# Altium schematic symbol library CapTouchSense.SchLib: 63 symbols
Pins are listed as number, name and electrical type; pins without a type are passive.

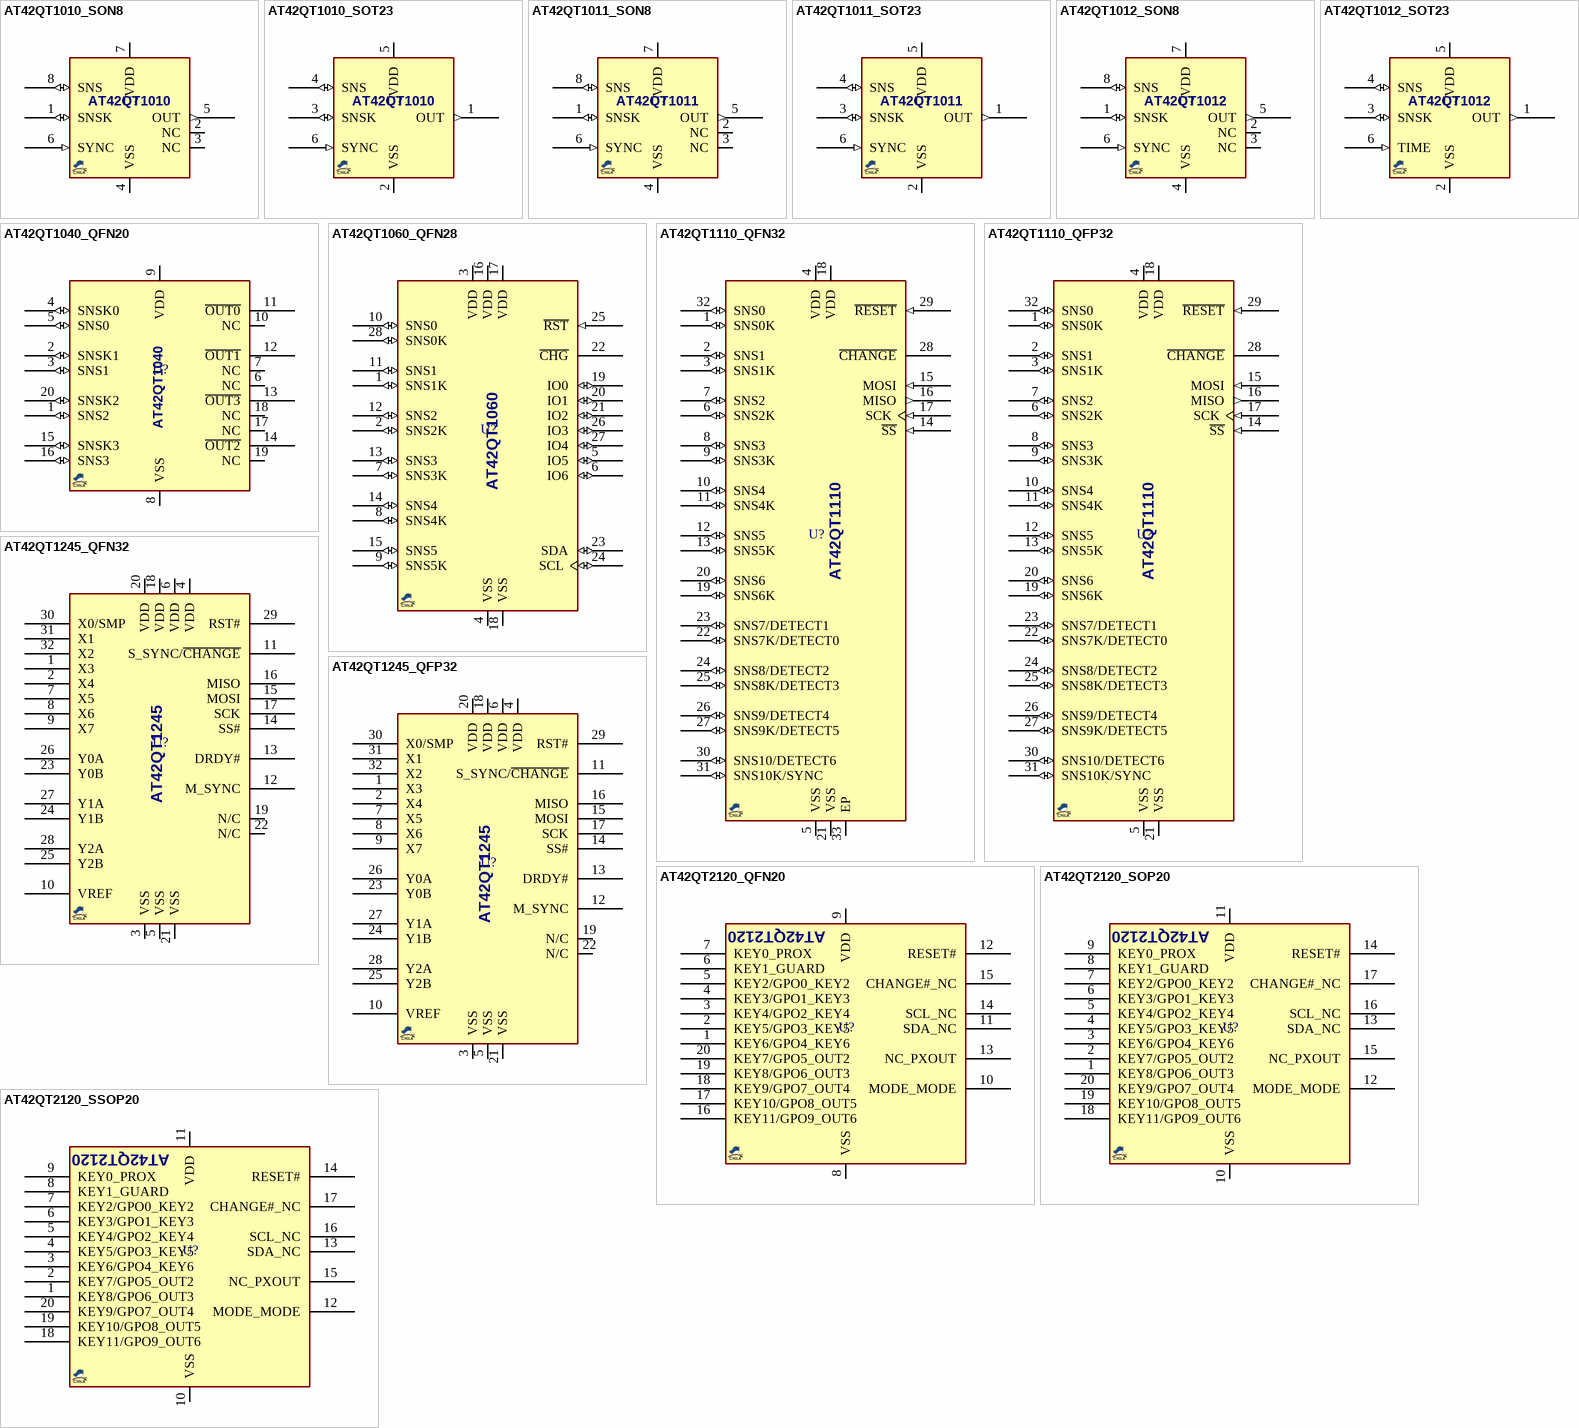
[diagram p0: symbols AT42QT1010_SON8 to AT42QT2120_SSOP20]

## AT42QT1010_SON8
designator U?, comment AT42QT1010  (value not drawn)
CapTouchSensor, 1-ch, Reset Timer, SON8; MANF: Atmel/Microchip; MANF_P#: AT42QT1010-MAH; PARAM2: 1.8~5.5v; PARAM: 1-ch, Reset Timer, ActiveHigh; PRICE: 0.6$; VALUE: AT42QT1010
footprint SON50_8T_2X2 (DSG PWSON (TI), Pitch: 0.5mm 2x2x0.8mm with Thermal pad)
pins: 1 SNSK (io), 2 NC, 3 NC, 4 VSS, 5 OUT (out), 6 SYNC (in), 7 VDD, 8 SNS (io)

## AT42QT1010_SOT23
designator U?, comment AT42QT1010  (value not drawn)
CapTouchSensor, 1-ch, Reset Timer, 6-pin SOT23; MANF: Atmel/Microchip; MANF_P#: AT42QT1010-TSHR, AT42QT1010; PARAM2: 1.8~5.5v; PARAM: 1-ch, Reset Timer, ActiveHigh; PRICE: 0.6$; VALUE: AT42QT1010
footprint SOT23_6 (SOT-23-6, DDC, MICRO6, SOT-26, SOT457, SuperSOT6, TSOP-6, HMC313, MO-178AB, MO-193AA, TSOT)
pins: 1 OUT (out), 2 VSS, 3 SNSK (io), 4 SNS (io), 5 VDD, 6 SYNC (in)

## AT42QT1011_SON8
designator U?, comment AT42QT1011  (value not drawn)
CapTouchSensor, 1-ch, Reset Timer, SON8; MANF: Atmel/Microchip; MANF_P#: AT42QT1011-MAH; PARAM2: 1.8~5.5v; PARAM: 1-ch, Reset Timer, ActiveHigh; PRICE: 0.6$; VALUE: AT42QT1011
footprint SON50_8T_2020 (DSG PWSON (TI), Pitch: 0.5mm 2x2x0.8mm with Thermal pad)
pins: 1 SNSK (io), 2 NC, 3 NC, 4 VSS, 5 OUT (out), 6 SYNC (in), 7 VDD, 8 SNS (io)

## AT42QT1011_SOT23
designator U?, comment AT42QT1011  (value not drawn)
CapTouchSensor, 1-ch, Reset Timer, 6-pin SOT23; MANF: Atmel/Microchip; MANF_P#: AT42QT1011-TSHR, AT42QT1011; PARAM2: 1.8~5.5v; PARAM: 1-ch, Reset Timer, ActiveHigh; PRICE: 0.6$; VALUE: AT42QT1011
footprint SOT23_6 (SOT-23-6, DDC, MICRO6, SOT-26, SOT457, SuperSOT6, TSOP-6, HMC313, MO-178AB, MO-193AA, TSOT)
pins: 1 OUT (out), 2 VSS, 3 SNSK (io), 4 SNS (io), 5 VDD, 6 SYNC (in)

## AT42QT1012_SON8
designator U?, comment AT42QT1012  (value not drawn)
CapTouchSensor, 1-ch, Reset Timer, SON8; MANF: Atmel/Microchip; MANF_P#: AT42QT1012-MAH; PARAM2: 1.8~5.5v; PARAM: 1-ch, Reset Timer, ActiveHigh; PRICE: 0.6$; VALUE: AT42QT1012
footprint SON50_8T_2020 (DSG PWSON (TI), Pitch: 0.5mm 2x2x0.8mm with Thermal pad)
pins: 1 SNSK (io), 2 NC, 3 NC, 4 VSS, 5 OUT (out), 6 SYNC (in), 7 VDD, 8 SNS (io)

## AT42QT1012_SOT23
designator U?, comment AT42QT1012  (value not drawn)
CapTouchSensor, 1-ch, Reset Timer, 6-pin SOT23; MANF: Atmel/Microchip; MANF_P#: AT42QT1012-TSHR, AT42QT1012; PARAM2: 1.8~5.5v; PARAM: 1-ch, Reset Timer, ActiveHigh; PRICE: 0.6$; VALUE: AT42QT1012
footprint SOT23_6 (SOT-23-6, DDC, MICRO6, SOT-26, SOT457, SuperSOT6, TSOP-6, HMC313, MO-178AB, MO-193AA, TSOT)
pins: 1 OUT (out), 2 VSS, 3 SNSK (io), 4 SNS (io), 5 VDD, 6 TIME (in)

## AT42QT1040_QFN20
designator U?, comment AT42QT1040  (value not drawn)
CapTouchSensor, 4-ch, ActiveLow, OpenDrain; DESC: QTouch; MANF: Atmel/Microchip; MANF_P#: AT42QT1040-MMH; PARAM2: 1.8~5.5V; PARAM: ActiveLow, OpenDrain, -40~85°C; PRICE: 1.3$; VALUE: AT42QT1040
footprint QFN45_20T_3X3 (20M2, QFN-20, 3X3mm, pitch 0.45mm)
pins: 1 SNS2 (io), 2 SNSK1 (io), 3 SNS1 (io), 4 SNSK0 (io), 5 SNS0 (io), 6 NC, 7 NC, 8 VSS (power), 9 VDD (power), 10 NC, 11 ~{OUT0} (oc), 12 ~{OUT1} (oc), 13 ~{OUT3} (oc), 14 ~{OUT2} (oc), 15 SNSK3 (io), 16 SNS3 (io), 17 NC, 18 NC, 19 NC, 20 SNSK2 (io)

## AT42QT1060_QFN28
designator U?, comment AT42QT1060  (value not drawn)
CapTouchSensor, 6-ch, PARALLEL+I2C; MANF: Atmel/Microchip; MANF_P#: AT42QT1060-MMU; PARAM2: 1.8~5.5V; PARAM: 6-ch, I2C, QTouch, -40~85°C; PRICE: 2.2$; VALUE: AT42QT1060
footprint QFN45_28T_4X4 (28M1, QFN-28, pitch:0.45mm 4x4x1mm)
pins: 1 SNS1K (io), 2 SNS2K (io), 3 VDD (power), 4 VSS (power), 5 IO5 (io), 6 IO6 (io), 7 SNS3K (io), 8 SNS4K (io), 9 SNS5K (io), 10 SNS0 (io), 11 SNS1 (io), 12 SNS2 (io), 13 SNS3 (io), 14 SNS4 (io), 15 SNS5 (io), 16 VDD (power), 17 VDD (power), 18 VSS (power), 19 IO0 (io), 20 IO1 (io), 21 IO2 (io), 22 ~{CHG} (oc), 23 SDA (io), 24 SCL (io), 25 ~{RST} (in), 26 IO3 (io), 27 IO4 (io), 28 SNS0K (io)

## AT42QT1110_QFN32
designator U?, comment AT42QT1110  (value not drawn)
CapTouchSensor, 11-ch, SPI; MANF: Atmel/Microchip; MANF_P#: AT42QT1110-MUR, AT42QT1110-MZ; PARAM2: 3~5.5V; PARAM: 11-ch, SPI, QTouch, -40~85°C; PRICE: 1.2$; VALUE: AT42QT1110
footprint QFN50_32T (QFN, 32, 5X5mm, 0.5mm)
pins: 1 SNS0K (io), 2 SNS1 (io), 3 SNS1K (io), 4 VDD (power), 5 VSS (power), 6 SNS2K (io), 7 SNS2 (io), 8 SNS3 (io), 9 SNS3K (io), 10 SNS4 (io), 11 SNS4K (io), 12 SNS5 (io), 13 SNS5K (io), 14 ~{SS} (in), 15 MOSI (in), 16 MISO (out), 17 SCK (in), 18 VDD (power), 19 SNS6K (io), 20 SNS6 (io), 21 VSS (power), 22 SNS7K/DETECT0 (io), 23 SNS7/DETECT1 (io), 24 SNS8/DETECT2 (io), 25 SNS8K/DETECT3 (io), 26 SNS9/DETECT4 (io), 27 SNS9K/DETECT5 (io), 28 ~{CHANGE} (oc), 29 ~{RESET} (in), 30 SNS10/DETECT6 (io), 31 SNS10K/SYNC (io), 32 SNS0 (io), 33 EP (power)

## AT42QT1110_QFP32
designator U?, comment AT42QT1110  (value not drawn)
CapTouchSensor, 11-ch, SPI; MANF: Atmel/Microchip; MANF_P#: AT42QT1110-AUR, AT42QT1110-AZ; PARAM2: 3~5.5V; PARAM: 11-ch, SPI, QTouch, -40~85°C; PRICE: 1.2$, 2.2$; VALUE: AT42QT1110
footprint QFG80_32 (TQFP32, A32 (Cypress), GP32 (Zarlink), MS-026ABA(JEDEC), 7X7mm, 0.8mm)
pins: 1 SNS0K (io), 2 SNS1 (io), 3 SNS1K (io), 4 VDD (power), 5 VSS (power), 6 SNS2K (io), 7 SNS2 (io), 8 SNS3 (io), 9 SNS3K (io), 10 SNS4 (io), 11 SNS4K (io), 12 SNS5 (io), 13 SNS5K (io), 14 ~{SS} (in), 15 MOSI (in), 16 MISO (out), 17 SCK (in), 18 VDD (power), 19 SNS6K (io), 20 SNS6 (io), 21 VSS (power), 22 SNS7K/DETECT0 (io), 23 SNS7/DETECT1 (io), 24 SNS8/DETECT2 (io), 25 SNS8K/DETECT3 (io), 26 SNS9/DETECT4 (io), 27 SNS9K/DETECT5 (io), 28 ~{CHANGE} (oc), 29 ~{RESET} (in), 30 SNS10/DETECT6 (io), 31 SNS10K/SYNC (io), 32 SNS0 (io)

## AT42QT1245_QFN32
designator U?, comment AT42QT1245  (value not drawn)
CapTouchSensor, 24-CH, SPI, QFN32; MANF: Atmel/Microchip; MANF_P#: AT42QT1245-MU; PARAM2: 3~5V; PARAM: 24-CH, SPI, QMatrix, -40~105°C; PRICE: 1.4$; VALUE: AT42QT1245
footprint QFN50_32T (QFN, 32, 5X5mm, 0.5mm)
pins: 1 X3, 2 X4, 3 VSS, 4 VDD, 5 VSS, 6 VDD, 7 X5, 8 X6, 9 X7, 10 VREF, 11 S_SYNC/~{CHANGE}, 12 M_SYNC, 13 DRDY#, 14 SS#, 15 MOSI, 16 MISO, 17 SCK, 18 VDD, 19 N/C, 20 VDD, 21 VSS, 22 N/C, 23 Y0B, 24 Y1B, 25 Y2B, 26 Y0A, 27 Y1A, 28 Y2A, 29 RST#, 30 X0/SMP, 31 X1, 32 X2

## AT42QT1245_QFP32
designator U?, comment AT42QT1245  (value not drawn)
CapTouchSensor, 24-CH, SPI, QFP32; MANF: Atmel/Microchip; MANF_P#: AT42QT1245-AU; PARAM2: 3~5V; PARAM: 24-CH, SPI, QMatrix, -40~105°C; PRICE: 3$; VALUE: AT42QT1245
footprint QFG80_32 (TQFP32, A32 (Cypress), GP32 (Zarlink), MS-026ABA(JEDEC), 7X7mm, 0.8mm)
pins: 1 X3, 2 X4, 3 VSS, 4 VDD, 5 VSS, 6 VDD, 7 X5, 8 X6, 9 X7, 10 VREF, 11 S_SYNC/~{CHANGE}, 12 M_SYNC, 13 DRDY#, 14 SS#, 15 MOSI, 16 MISO, 17 SCK, 18 VDD, 19 N/C, 20 VDD, 21 VSS, 22 N/C, 23 Y0B, 24 Y1B, 25 Y2B, 26 Y0A, 27 Y1A, 28 Y2A, 29 RST#, 30 X0/SMP, 31 X1, 32 X2

## AT42QT2120_QFN20
designator U?, comment AT42QT2120  (value not drawn)
CapTouchSensor, 12-CH, I2C, QFN20; MANF: Atmel/Microchip; MANF_P#: AT42QT2120-MMH; PARAM2: 1.8~5.5V; PARAM: 12-CH, I2C, QTouch, -40~85°C; PRICE: 1.5$; VALUE: AT42QT2120
footprint QFN45_20T_3X3 (20M2, QFN-20, 3X3mm, pitch 0.45mm)
pins: 1 KEY6/GPO4_KEY6, 2 KEY5/GPO3_KEY5, 3 KEY4/GPO2_KEY4, 4 KEY3/GPO1_KEY3, 5 KEY2/GPO0_KEY2, 6 KEY1_GUARD, 7 KEY0_PROX, 8 VSS, 9 VDD, 10 MODE_MODE, 11 SDA_NC, 12 RESET#, 13 NC_PXOUT, 14 SCL_NC, 15 CHANGE#_NC, 16 KEY11/GPO9_OUT6, 17 KEY10/GPO8_OUT5, 18 KEY9/GPO7_OUT4, 19 KEY8/GPO6_OUT3, 20 KEY7/GPO5_OUT2

## AT42QT2120_SOP20
designator U?, comment AT42QT2120  (value not drawn)
CapTouchSensor, 12-CH, I2C, QFN20; MANF: Atmel/Microchip; MANF_P#: AT42QT2120-SU; PARAM2: 1.8~5.5V; PARAM: 12-CH, I2C, QTouch, -40~85°C; PRICE: 0.7$; VALUE: AT42QT2120
footprint SO_20_W (SOP, SOIC, 7.5mm width, 1.27mm pitch,)
pins: 1 KEY8/GPO6_OUT3, 2 KEY7/GPO5_OUT2, 3 KEY6/GPO4_KEY6, 4 KEY5/GPO3_KEY5, 5 KEY4/GPO2_KEY4, 6 KEY3/GPO1_KEY3, 7 KEY2/GPO0_KEY2, 8 KEY1_GUARD, 9 KEY0_PROX, 10 VSS, 11 VDD, 12 MODE_MODE, 13 SDA_NC, 14 RESET#, 15 NC_PXOUT, 16 SCL_NC, 17 CHANGE#_NC, 18 KEY11/GPO9_OUT6, 19 KEY10/GPO8_OUT5, 20 KEY9/GPO7_OUT4

## AT42QT2120_SSOP20
designator U?, comment AT42QT2120  (value not drawn)
CapTouchSensor, 12-CH, I2C, QFN20; MANF: Atmel/Microchip; MANF_P#: AT42QT2120-XU; PARAM2: 1.8~5.5V; PARAM: 12-CH, I2C, QTouch, -40~85°C; PRICE: 1.5$; VALUE: AT42QT2120
footprint SOG65_20 (PW TSSOP (TI), MO-153-AC (JEDEC), 20Lead, pitch: 0.65mm, 6.5x4.4x1.2mm)
pins: 1 KEY8/GPO6_OUT3, 2 KEY7/GPO5_OUT2, 3 KEY6/GPO4_KEY6, 4 KEY5/GPO3_KEY5, 5 KEY4/GPO2_KEY4, 6 KEY3/GPO1_KEY3, 7 KEY2/GPO0_KEY2, 8 KEY1_GUARD, 9 KEY0_PROX, 10 VSS, 11 VDD, 12 MODE_MODE, 13 SDA_NC, 14 RESET#, 15 NC_PXOUT, 16 SCL_NC, 17 CHANGE#_NC, 18 KEY11/GPO9_OUT6, 19 KEY10/GPO8_OUT5, 20 KEY9/GPO7_OUT4

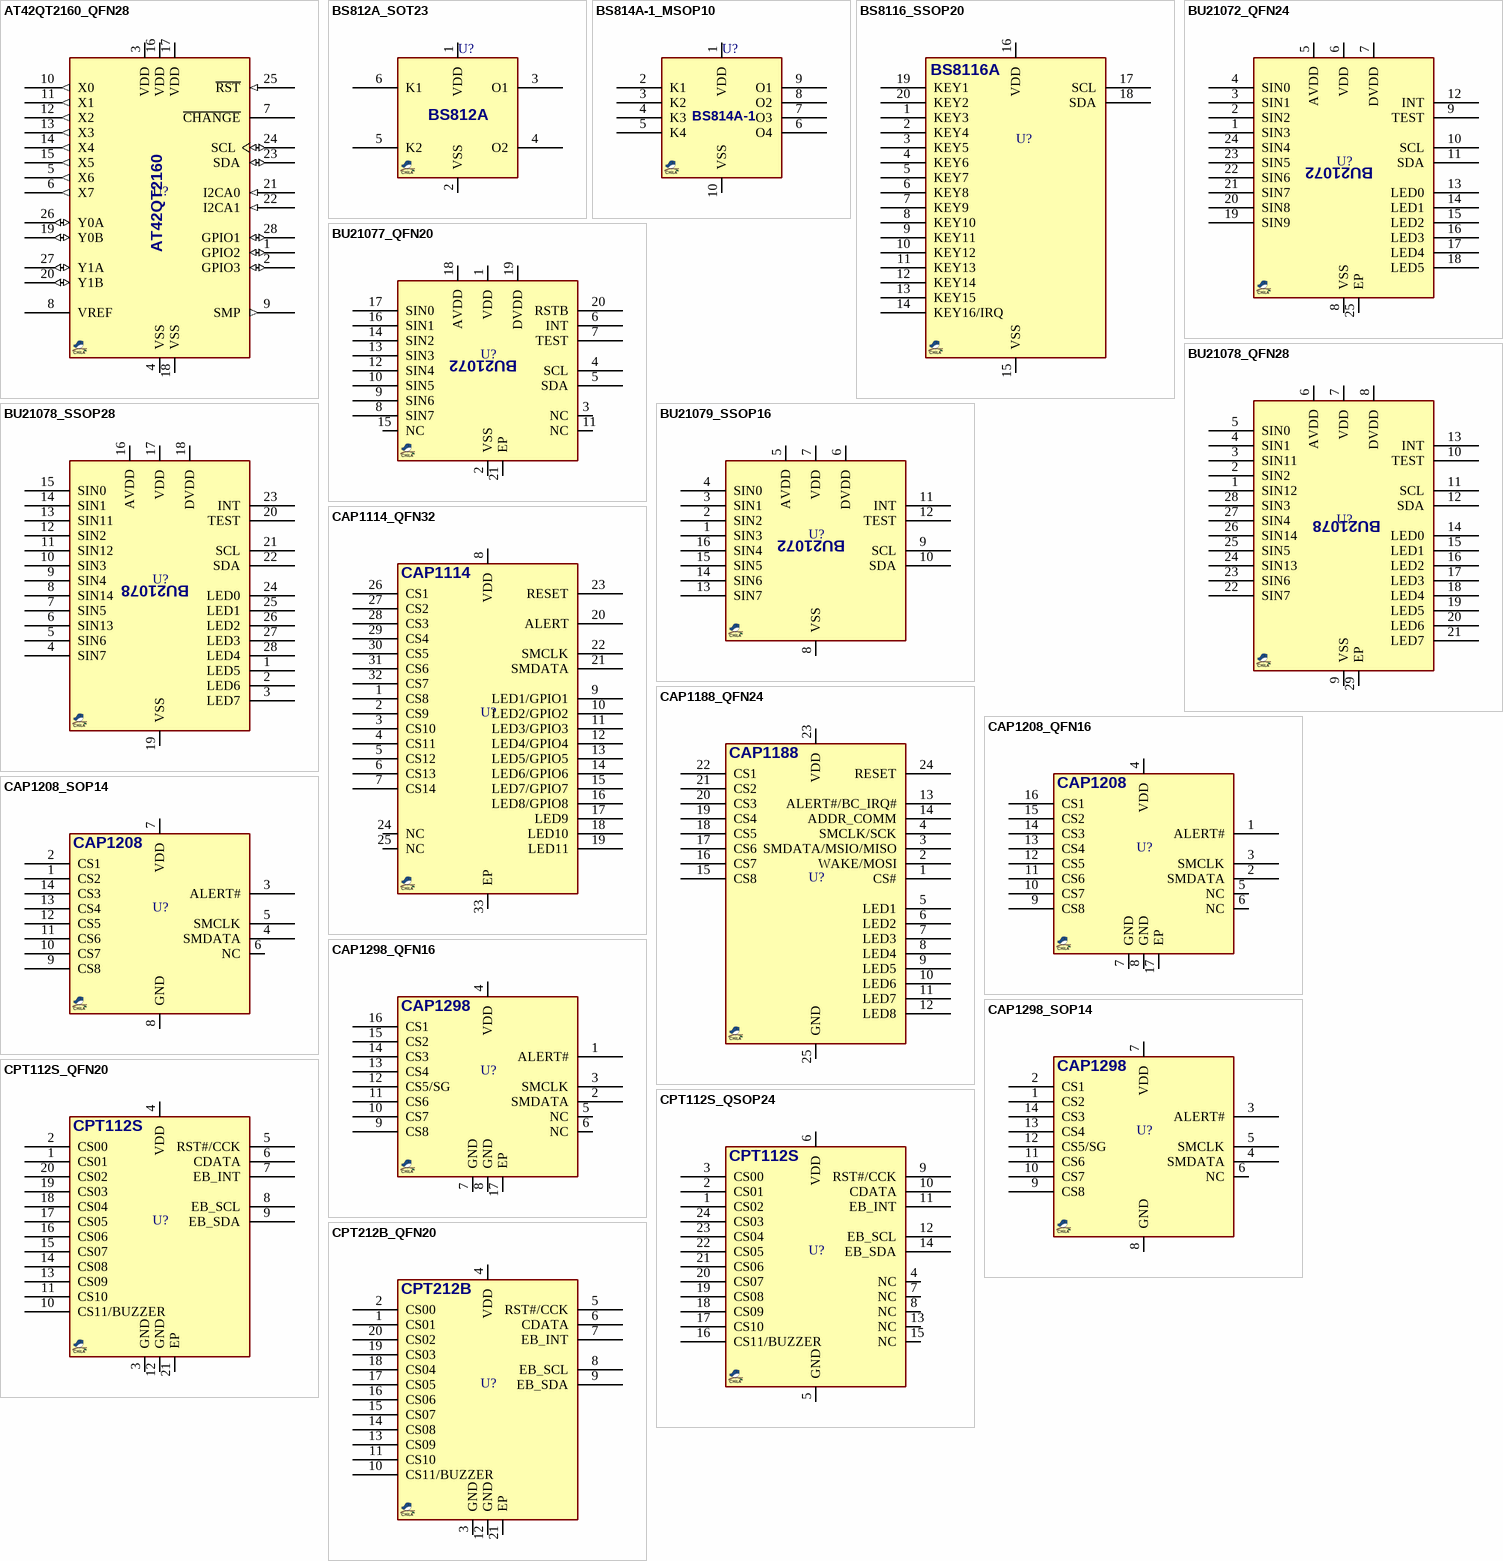
[diagram p1: symbols AT42QT2160_QFN28 to CPT212B_QFN20]

## AT42QT2160_QFN28
designator U?, comment AT42QT2160  (value not drawn)
CapTouchSensor, 16-CH, I2C, QFN28; DESC: QMatrix, QSlide; MANF: Atmel/Microchip; MANF_P#: AT42QT2160-MMU; PARAM2: 1.8~5.5V; PARAM: 16-CH, I2C, QMatrix/QSlide, -40~85°C; PRICE: 2.2$; VALUE: AT42QT2160
footprint QFN45_28T_4X4 (28M1, QFN-28, pitch:0.45mm 4x4x1mm)
pins: 1 GPIO2 (io), 2 GPIO3 (io), 3 VDD (power), 4 VSS (power), 5 X6 (out), 6 X7 (out), 7 ~{CHANGE} (oc), 8 VREF (power), 9 SMP (out), 10 X0 (out), 11 X1 (out), 12 X2 (out), 13 X3 (out), 14 X4 (out), 15 X5 (out), 16 VDD (power), 17 VDD (power), 18 VSS (power), 19 Y0B (io), 20 Y1B (io), 21 I2CA0 (in), 22 I2CA1 (in), 23 SDA (io), 24 SCL (io), 25 ~{RST} (in), 26 Y0A (io), 27 Y1A (io), 28 GPIO1 (io)

## BS812A_SOT23
designator U?, comment BS812A  (value not drawn)
CapTouchSensor, 2-Ch; MANF: HOLTEK; MANF_P#: BS812A-1; PARAM2: 2~5.5V; VALUE: BS812A
footprint SOT23_6 (SOT-23-6, MICRO6, SOT-26, SOT457, SuperSOT6, TSOP-6, HMC313, MO-178AB, MO-193AA, TSOT)
pins: 1 VDD, 2 VSS, 3 O1, 4 O2, 5 K2, 6 K1

## BS814A-1_MSOP10
designator U?, comment BS814A-1  (value not drawn)
CapTouchSensor, 4-Ch parallel; MANF: HOLTEK; PARAM2: 2~5.5V; MANF_P#: BS814A-1; PRICE: 4t@Micromdern; VALUE: BS814A-1
footprint SOG50_10 (MSSOP10, 3X3mm 0.5mm pitch, DGS, MSOP10, 10uSOP/usop10 (Dallas), MO-187BA(JEDEC))
pins: 1 VDD, 2 K1, 3 K2, 4 K3, 5 K4, 6 O4, 7 O3, 8 O2, 9 O1, 10 VSS

## BS8116_SSOP20
designator U?, comment BS8116  (value not drawn)
CapTouchSensor, 16-Ch; MANF: HOLTEK; MANF_P#: BS8116A-3; PARAM2: 2.2~5.5V; VALUE: BS8116
footprint SOG63_20 (SSOP, 20-Leads, 8.60xWidth: 3.90mm, Pitch 0.635mm)
pins: 1 KEY3, 2 KEY4, 3 KEY5, 4 KEY6, 5 KEY7, 6 KEY8, 7 KEY9, 8 KEY10, 9 KEY11, 10 KEY12, 11 KEY13, 12 KEY14, 13 KEY15, 14 KEY16/IRQ, 15 VSS, 16 VDD, 17 SCL, 18 SDA, 19 KEY1, 20 KEY2
text: BS8116A

## BU21072_QFN24
designator U?, comment BU21072  (value not drawn)
CapTouchSensor, 16-CH, I2C, Matrix, QFN24; MANF: ROHM; MANF_P#: BU21072MUV; PARAM2: 3~5.5V; PARAM: 16-CH, I2C, -20~85°C; PRICE: 2.8$; VALUE: BU21072
footprint QFN50_24T (MO-220 (JEDEC), RGE S-PQFP-N24 (TI), 4X4mm, 0.5mm, HVQFN24)
pins: 1 SIN3, 2 SIN2, 3 SIN1, 4 SIN0, 5 AVDD, 6 VDD, 7 DVDD, 8 VSS, 9 TEST, 10 SCL, 11 SDA, 12 INT, 13 LED0, 14 LED1, 15 LED2, 16 LED3, 17 LED4, 18 LED5, 19 SIN9, 20 SIN8, 21 SIN7, 22 SIN6, 23 SIN5, 24 SIN4, 25 EP

## BU21077_QFN20
designator U?, comment BU21077  (value not drawn)
CapTouchSensor, 8-CH, I2C, Matrix, QFN20; MANF: ROHM; MANF_P#: BU21077MUV; PARAM2: 2.7~5.5V; PARAM: 16-CH, I2C, -20~85°C; PRICE: 2.1$; VALUE: BU21077
footprint QFN50_20T (QFN, 20, 4X4mm, 0.5mm)
pins: 1 VDD, 2 VSS, 3 NC, 4 SCL, 5 SDA, 6 INT, 7 TEST, 8 SIN7, 9 SIN6, 10 SIN5, 11 NC, 12 SIN4, 13 SIN3, 14 SIN2, 15 NC, 16 SIN1, 17 SIN0, 18 AVDD, 19 DVDD, 20 RSTB, 21 EP
text: BU21072

## BU21078_QFN28
designator U?, comment BU21078  (value not drawn)
CapTouchSensor, 36-CH, I2C, Matrix, QFN28; MANF: ROHM; MANF_P#: BU21078MUV; PARAM2: 3~5.5V; PARAM: 36-CH, I2C, -20~85°C; PRICE: 2.8$; VALUE: BU21078
footprint QFN50_28T (QFN, 28, 5X5mm, 0.5mm)
pins: 1 SIN12, 2 SIN2, 3 SIN11, 4 SIN1, 5 SIN0, 6 AVDD, 7 VDD, 8 DVDD, 9 VSS, 10 TEST, 11 SCL, 12 SDA, 13 INT, 14 LED0, 15 LED1, 16 LED2, 17 LED3, 18 LED4, 19 LED5, 20 LED6, 21 LED7, 22 SIN7, 23 SIN6, 24 SIN13, 25 SIN5, 26 SIN14, 27 SIN4, 28 SIN3, 29 EP

## BU21078_SSOP28
designator U?, comment BU21078  (value not drawn)
CapTouchSensor, 36-CH, I2C, Matrix, SSOP28; MANF: ROHM; MANF_P#: BU21078FV; PARAM2: 3~5.5V; PARAM: 36-CH, I2C, -20~85°C; PRICE: 1.7$; VALUE: BU21078
footprint SOG65_28_W (SOP, 28-Leads, Body 10.6x5.6mm (max), Pitch 0.65mm)
pins: 1 LED5, 2 LED6, 3 LED7, 4 SIN7, 5 SIN6, 6 SIN13, 7 SIN5, 8 SIN14, 9 SIN4, 10 SIN3, 11 SIN12, 12 SIN2, 13 SIN11, 14 SIN1, 15 SIN0, 16 AVDD, 17 VDD, 18 DVDD, 19 VSS, 20 TEST, 21 SCL, 22 SDA, 23 INT, 24 LED0, 25 LED1, 26 LED2, 27 LED3, 28 LED4

## BU21079_SSOP16
designator U?, comment BU21079  (value not drawn)
CapTouchSensor, 8-CH, I2C, Matrix, QFN20; MANF: ROHM; MANF_P#: BU21079F; PARAM2: 3~5.5V; PARAM: 16-CH, I2C, -20~85°C; PRICE: 2.4$; VALUE: BU21079
footprint SOG65_16 (PW TSSOP (TI), MO-153-AB (JEDEC), 16Lead, pitch: 0.65mm, 5x4.4x1.2mm)
pins: 1 SIN3, 2 SIN2, 3 SIN1, 4 SIN0, 5 AVDD, 6 DVDD, 7 VDD, 8 VSS, 9 SCL, 10 SDA, 11 INT, 12 TEST, 13 SIN7, 14 SIN6, 15 SIN5, 16 SIN4
text: BU21072

## CAP1114_QFN32
designator U?, comment CAP1114  (value not drawn)
CapTouchSensor, 14-CH, I2C/SMBUS, QFN32; DESC: LED driver open Drain 5v; MANF: Microchip; MANF_P#: CAP1114-1-EZK; PARAM2: 3.3V; PARAM: 14-CH, I2C/SMBUS, -40~125°C; PRICE: 1.4$; VALUE: CAP1114
footprint QFN50_32T (QFN, 32, 5X5mm, 0.5mm)
pins: 1 CS8, 2 CS9, 3 CS10, 4 CS11, 5 CS12, 6 CS13, 7 CS14, 8 VDD, 9 LED1/GPIO1, 10 LED2/GPIO2, 11 LED3/GPIO3, 12 LED4/GPIO4, 13 LED5/GPIO5, 14 LED6/GPIO6, 15 LED7/GPIO7, 16 LED8/GPIO8, 17 LED9, 18 LED10, 19 LED11, 20 ALERT, 21 SMDATA, 22 SMCLK, 23 RESET, 24 NC, 25 NC, 26 CS1, 27 CS2, 28 CS3, 29 CS4, 30 CS5, 31 CS6, 32 CS7, 33 EP

## CAP1188_QFN24
designator U?, comment CAP1188  (value not drawn)
CapTouchSensor, 8-CH, I2C/SMBUS/SPI, QFN24; DESC: LED driver open Drain 5v; MANF: Microchip; MANF_P#: CAP1188-1-CP; PARAM2: 3.3V; PARAM: 8-CH, I2C/SMBUS/SPI, -40~125°C; PRICE: 1.4$; VALUE: CAP1188
footprint QFN50_24T (MO-220 (JEDEC), RGE S-PQFP-N24 (TI), 4X4mm, 0.5mm, HVQFN24)
pins: 1 CS#, 2 WAKE/MOSI, 3 SMDATA/MSIO/MISO, 4 SMCLK/SCK, 5 LED1, 6 LED2, 7 LED3, 8 LED4, 9 LED5, 10 LED6, 11 LED7, 12 LED8, 13 ALERT#/BC_IRQ#, 14 ADDR_COMM, 15 CS8, 16 CS7, 17 CS6, 18 CS5, 19 CS4, 20 CS3, 21 CS2, 22 CS1, 23 VDD, 24 RESET, 25 GND

## CAP1208_QFN16
designator U?, comment CAP1208  (value not drawn)
CapTouchSensor, 8-CH, I2C/SMBUS, QFN16; DESC: LED driver open Drain 5v; MANF: Microchip; MANF_P#: CAP1208-1-A4; PARAM2: 3.3/5V; PARAM: 8-CH, I2C/SMBUS, -40~125°C; PRICE: 1$; VALUE: CAP1208
footprint QFN50_16T_3X3 (RGT PVQFN (TI), 16-lead, pitch: 0.5mm, 3x3mm)
pins: 1 ALERT#, 2 SMDATA, 3 SMCLK, 4 VDD, 5 NC, 6 NC, 7 GND, 8 GND, 9 CS8, 10 CS7, 11 CS6, 12 CS5, 13 CS4, 14 CS3, 15 CS2, 16 CS1, 17 EP

## CAP1208_SOP14
designator U?, comment CAP1208  (value not drawn)
CapTouchSensor, 8-CH, I2C/SMBUS, SOP14; DESC: LED driver open Drain 5v; MANF: Microchip; MANF_P#: CAP1208-1-SL; PARAM2: 3.3/5V; PARAM: 8-CH, I2C/SMBUS, -40~125°C; PRICE: 1$; VALUE: CAP1208
footprint SO_14 (SOP, SOIC, 3.9mm width, 1.27mm pitch,)
pins: 1 CS2, 2 CS1, 3 ALERT#, 4 SMDATA, 5 SMCLK, 6 NC, 7 VDD, 8 GND, 9 CS8, 10 CS7, 11 CS6, 12 CS5, 13 CS4, 14 CS3

## CAP1298_QFN16
designator U?, comment CAP1298  (value not drawn)
CapTouchSensor, 8-CH, I2C/SMBUS, QFN16; DESC: LED driver open Drain 5v; MANF: Microchip; MANF_P#: CAP1298-1-A4; PARAM2: 3.3/5V; PARAM: 8-CH, I2C/SMBUS, -40~125°C; PRICE: 1$; VALUE: CAP1298
footprint QFN50_16T_3X3 (RGT PVQFN (TI), 16-lead, pitch: 0.5mm, 3x3mm)
pins: 1 ALERT#, 2 SMDATA, 3 SMCLK, 4 VDD, 5 NC, 6 NC, 7 GND, 8 GND, 9 CS8, 10 CS7, 11 CS6, 12 CS5/SG, 13 CS4, 14 CS3, 15 CS2, 16 CS1, 17 EP

## CAP1298_SOP14
designator U?, comment CAP1298  (value not drawn)
CapTouchSensor, 8-CH, I2C/SMBUS, SOP14; DESC: LED driver open Drain 5v; MANF: Microchip; MANF_P#: CAP1298-1-SL; PARAM2: 3.3/5V; PARAM: 8-CH, I2C/SMBUS, -40~125°C; PRICE: 1$; VALUE: CAP1298
footprint SO_14 (SOP, SOIC, 3.9mm width, 1.27mm pitch,)
pins: 1 CS2, 2 CS1, 3 ALERT#, 4 SMDATA, 5 SMCLK, 6 NC, 7 VDD, 8 GND, 9 CS8, 10 CS7, 11 CS6, 12 CS5/SG, 13 CS4, 14 CS3

## CPT112S_QFN20
designator U?, comment CPT112S  (value not drawn)
CapTouchSensor, 12-CH, I2C, QFN20; MANF: Silicon Labs; MANF_P#: CPT112S-A02-GM; PARAM2: 1.8~3.6V; PARAM: 12-CH, I2C, -40~85°C; PRICE: 1.4$; VALUE: CPT112S
footprint QFN50_20T_3X3 (QFN20, pitch: 0.5mm, 3x3mm)
pins: 1 CS01, 2 CS00, 3 GND, 4 VDD, 5 RST#/CCK, 6 CDATA, 7 EB_INT, 8 EB_SCL, 9 EB_SDA, 10 CS11/BUZZER, 11 CS10, 12 GND, 13 CS09, 14 CS08, 15 CS07, 16 CS06, 17 CS05, 18 CS04, 19 CS03, 20 CS02, 21 EP

## CPT112S_QSOP24
designator U?, comment CPT112S  (value not drawn)
CapTouchSensor, 12-CH, I2C, QSOP24; MANF: Silicon Labs; MANF_P#: CPT112S-A02-GU; PARAM2: 1.8~3.6V; PARAM: 12-CH, I2C, -40~85°C; PRICE: 1.5$; VALUE: CPT112S
footprint SOG63_24 (QSOP24, 8.6X3.9mm, 0.635mm pitch)
pins: 1 CS02, 2 CS01, 3 CS00, 4 NC, 5 GND, 6 VDD, 7 NC, 8 NC, 9 RST#/CCK, 10 CDATA, 11 EB_INT, 12 EB_SCL, 13 NC, 14 EB_SDA, 15 NC, 16 CS11/BUZZER, 17 CS10, 18 CS09, 19 CS08, 20 CS07, 21 CS06, 22 CS05, 23 CS04, 24 CS03

## CPT212B_QFN20
designator U?, comment CPT212B  (value not drawn)
CapTouchSensor, 12-CH, I2C, QFN20; MANF: Silicon Labs; MANF_P#: CPT212B-A01-GM; PARAM2: 1.8~3.6V; PARAM: 12-CH, I2C, -40~85°C; PRICE: 1.4$; VALUE: CPT212B
footprint QFN50_20T_3X3 (QFN20, pitch: 0.5mm, 3x3mm)
pins: 1 CS01, 2 CS00, 3 GND, 4 VDD, 5 RST#/CCK, 6 CDATA, 7 EB_INT, 8 EB_SCL, 9 EB_SDA, 10 CS11/BUZZER, 11 CS10, 12 GND, 13 CS09, 14 CS08, 15 CS07, 16 CS06, 17 CS05, 18 CS04, 19 CS03, 20 CS02, 21 EP

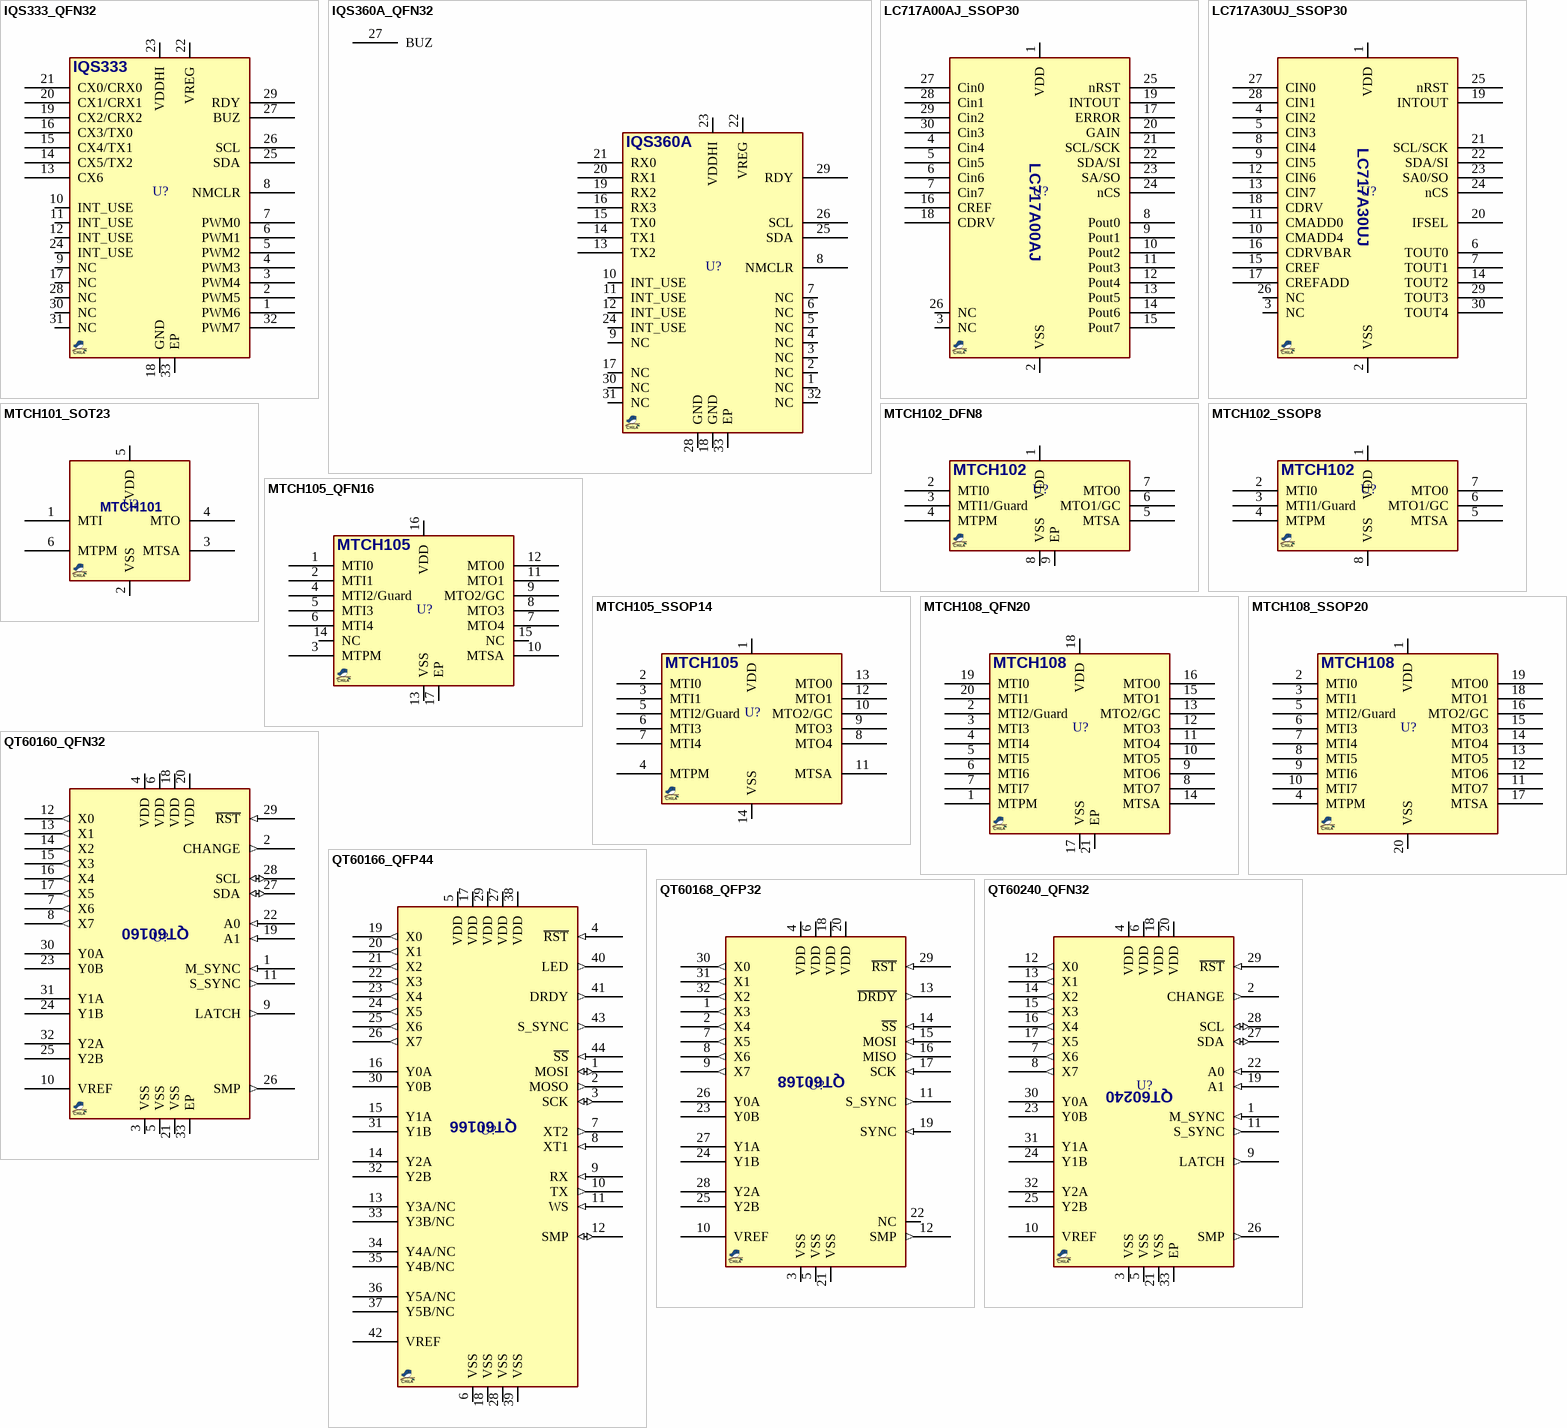
[diagram p2: symbols IQS333_QFN32 to QT60240_QFN32]

## IQS333_QFN32
designator U?, comment IQS333  (value not drawn)
CapTouchSensor, 7-CH, I2C, QFN32; DESC: PROX and Touch, 2x 11bit Slider; MANF: Azoteq; MANF_P#: IQS333-0-QFR; PARAM2: 1.8~3.6V; PARAM: 7-CH, I2C, -20~85°C; PRICE: 1.2$; VALUE: IQS333
footprint QFN50_32T (QFN, 32, 5X5mm, 0.5mm)
pins: 1 PWM6, 2 PWM5, 3 PWM4, 4 PWM3, 5 PWM2, 6 PWM1, 7 PWM0, 8 NMCLR, 9 NC, 10 INT_USE, 11 INT_USE, 12 INT_USE, 13 CX6, 14 CX5/TX2, 15 CX4/TX1, 16 CX3/TX0, 17 NC, 18 GND, 19 CX2/CRX2, 20 CX1/CRX1, 21 CX0/CRX0, 22 VREG, 23 VDDHI, 24 INT_USE, 25 SDA, 26 SCL, 27 BUZ, 28 NC, 29 RDY, 30 NC, 31 NC, 32 PWM7, 33 EP

## IQS360A_QFN32
designator U?, comment IQS360A  (value not drawn)
CapTouchSensor, 7-CH, I2C, QFN32; DESC: PROX and Touch, 2x 11bit Slider; MANF: Azoteq; MANF_P#: IQS360A-0-QFR; PARAM2: 1.8~3.6V; PARAM: 7-CH, I2C, -20~85°C; PRICE: 1.2$; VALUE: IQS360A
footprint QFN50_32T (QFN, 32, 5X5mm, 0.5mm)
pins: 1 NC, 2 NC, 3 NC, 4 NC, 5 NC, 6 NC, 7 NC, 8 NMCLR, 9 NC, 10 INT_USE, 11 INT_USE, 12 INT_USE, 13 TX2, 14 TX1, 15 TX0, 16 RX3, 17 NC, 18 GND, 19 RX2, 20 RX1, 21 RX0, 22 VREG, 23 VDDHI, 24 INT_USE, 25 SDA, 26 SCL, 27 BUZ, 28 GND, 29 RDY, 30 NC, 31 NC, 32 NC, 33 EP

## LC717A00AJ_SSOP30
designator U?, comment LC717A00AJ  (value not drawn)
CapTouchSensor, 8-CH, I2C/SPI, SSOP30; MANF: ON; MANF_P#: LC717A00AJ-AH; PARAM2: 2.6~5.5V; PARAM: 8-CH, I2C/SPI, -40~105°C; PRICE: 2.2$; VALUE: LC717A00AJ
footprint SOG50_30 (DBT TSSOP (TI), MO-153 (JEDEC), 30Lead, pitch: 0.5mm, 8x4.4x1.2mm)
pins: 1 VDD, 2 VSS, 3 NC, 4 Cin4, 5 Cin5, 6 Cin6, 7 Cin7, 8 Pout0, 9 Pout1, 10 Pout2, 11 Pout3, 12 Pout4, 13 Pout5, 14 Pout6, 15 Pout7, 16 CREF, 17 ERROR, 18 CDRV, 19 INTOUT, 20 GAIN, 21 SCL/SCK, 22 SDA/SI, 23 SA/SO, 24 nCS, 25 nRST, 26 NC, 27 Cin0, 28 Cin1, 29 Cin2, 30 Cin3

## LC717A30UJ_SSOP30
designator U?, comment LC717A30UJ  (value not drawn)
CapTouchSensor, 8-CH, I2C/SPI, SSOP30; MANF: ON; MANF_P#: LC717A30UJ-AH; PARAM2: 2.6~5.5V; PARAM: 8-CH, I2C/SPI, -40~105°C; PRICE: 4.6$; VALUE: LC717A30UJ
footprint SOG50_30 (DBT TSSOP (TI), MO-153 (JEDEC), 30Lead, pitch: 0.5mm, 8x4.4x1.2mm)
pins: 1 VDD, 2 VSS, 3 NC, 4 CIN2, 5 CIN3, 6 TOUT0, 7 TOUT1, 8 CIN4, 9 CIN5, 10 CMADD4, 11 CMADD0, 12 CIN6, 13 CIN7, 14 TOUT2, 15 CREF, 16 CDRVBAR, 17 CREFADD, 18 CDRV, 19 INTOUT, 20 IFSEL, 21 SCL/SCK, 22 SDA/SI, 23 SA0/SO, 24 nCS, 25 nRST, 26 NC, 27 CIN0, 28 CIN1, 29 TOUT3, 30 TOUT4

## MTCH101_SOT23
designator U?, comment MTCH101  (value not drawn)
CapTouchSensor, 1-CH, SOT23-6; MANF: Microchip; MANF_P#: MTCH101-I/OT, MTCH101T-I/OT; PARAM2: 2~5.5V; PARAM: 1-CH, -40~85°C; PRICE: 0.5$; VALUE: MTCH101
footprint SOT23_6 (SOT-23-6, DDC, MICRO6, SOT-26, SOT457, SuperSOT6, TSOP-6, HMC313, MO-178AB, MO-193AA, TSOT)
pins: 1 MTI, 2 VSS, 3 MTSA, 4 MTO, 5 VDD, 6 MTPM

## MTCH102_DFN8
designator U?, comment MTCH102  (value not drawn)
CapTouchSensor, 2-CH, PARALLEL, DFN8; MANF: Microchip; MANF_P#: MTCH102T-I/MU; PARAM2: 2~3.6V; PARAM: 2-CH, PARALLEL, -40~85°C; PRICE: 0.8$; VALUE: MTCH102
footprint SON50_8T_2X3 (TDFN, UFDFPN8, Pitch: 0.5mm 2x3x0.8mm with Thermal pad)
pins: 1 VDD, 2 MTI0, 3 MTI1/Guard, 4 MTPM, 5 MTSA, 6 MTO1/GC, 7 MTO0, 8 VSS, 9 EP

## MTCH102_SSOP8
designator U?, comment MTCH102  (value not drawn)
CapTouchSensor, 2-CH, PARALLEL, SSOP8; MANF: Microchip; MANF_P#: MTCH102-I/MS, MTCH102T-I/MS; PARAM2: 2~3.6V; PARAM: 2-CH, PARALLEL, -40~85°C; PRICE: 0.8$; VALUE: MTCH102
footprint SOG65_8_3 (TSSOP8, MICRO8,  DGK VSSOP-8, MSOP8,   RM-8, MS8, MSOP-8, TSSO3X5-G8/D3.1, 8 uMAX, usop8/8uSOP, MO-187AA, MO-153AA, SSOP DCT SM8 (TI), pitch: 0.65mm, 3.0mmX3.0mm)
pins: 1 VDD, 2 MTI0, 3 MTI1/Guard, 4 MTPM, 5 MTSA, 6 MTO1/GC, 7 MTO0, 8 VSS

## MTCH105_QFN16
designator U?, comment MTCH105  (value not drawn)
CapTouchSensor, 5-CH, PARALLEL, QFN16; MANF: Microchip; MANF_P#: MTCH105-I/ML, MTCH105T-I/ML; PARAM2: 2~3.6V; PARAM: 5-CH, PARALLEL, -40~85°C; PRICE: 1$; VALUE: MTCH105
footprint QFN65_16T (MO-220 VGGC, MO-220 WGGC-4(JEDEC), 4X4mm, 0.65mm)
pins: 1 MTI0, 2 MTI1, 3 MTPM, 4 MTI2/Guard, 5 MTI3, 6 MTI4, 7 MTO4, 8 MTO3, 9 MTO2/GC, 10 MTSA, 11 MTO1, 12 MTO0, 13 VSS, 14 NC, 15 NC, 16 VDD, 17 EP

## MTCH105_SSOP14
designator U?, comment MTCH105  (value not drawn)
CapTouchSensor, 5-CH, PARALLEL, SSOP14; MANF: Microchip; MANF_P#: MTCH105-I/ST, MTCH105T-I/ST; PARAM2: 2~3.6V; PARAM: 5-CH, PARALLEL, -40~85°C; PRICE: 1$; VALUE: MTCH105
footprint SOG65_14 (PW TSSOP (TI), MO-153-AB (JEDEC), 14Lead, pitch: 0.65mm, 5x4.4x1.2mm)
pins: 1 VDD, 2 MTI0, 3 MTI1, 4 MTPM, 5 MTI2/Guard, 6 MTI3, 7 MTI4, 8 MTO4, 9 MTO3, 10 MTO2/GC, 11 MTSA, 12 MTO1, 13 MTO0, 14 VSS

## MTCH108_QFN20
designator U?, comment MTCH108  (value not drawn)
CapTouchSensor, 8-CH, PARALLEL, QFN20; MANF: Microchip; MANF_P#: MTCH108-I/GZ,  MTCH108T-I/GZ; PARAM2: 2~3.6V; PARAM: 8-CH, PARALLEL, -40~85°C; PRICE: 1.2$; VALUE: MTCH108
footprint QFN50_20T (QFN, 20, 4X4mm, 0.5mm)
pins: 1 MTPM, 2 MTI2/Guard, 3 MTI3, 4 MTI4, 5 MTI5, 6 MTI6, 7 MTI7, 8 MTO7, 9 MTO6, 10 MTO5, 11 MTO4, 12 MTO3, 13 MTO2/GC, 14 MTSA, 15 MTO1, 16 MTO0, 17 VSS, 18 VDD, 19 MTI0, 20 MTI1, 21 EP

## MTCH108_SSOP20
designator U?, comment MTCH108  (value not drawn)
CapTouchSensor, 8-CH, PARALLEL, SSOP20; MANF: Microchip; MANF_P#: MTCH108-I/SS, MTCH108T-I/SS; PARAM2: 2~3.6V; PARAM: 8-CH, PARALLEL, -40~85°C; PRICE: 1.2$; VALUE: MTCH108
footprint SOG65_20_W (SSOP20, TSSOP20, RU-20, RQ-20, DB, pitch: 0.65mm, 7X5.3mm, QSP, SOT339-1, SOT266-1, AT-260, TSSO6X6-G20, NP20, MO-153AC, MO-150AE, MO-137-AD, MO-152)
pins: 1 VDD, 2 MTI0, 3 MTI1, 4 MTPM, 5 MTI2/Guard, 6 MTI3, 7 MTI4, 8 MTI5, 9 MTI6, 10 MTI7, 11 MTO7, 12 MTO6, 13 MTO5, 14 MTO4, 15 MTO3, 16 MTO2/GC, 17 MTSA, 18 MTO1, 19 MTO0, 20 VSS

## QT60160_QFN32
designator U?, comment QT60160  (value not drawn)
CapTouchSensor, 16-KEY, I2C, QMatrix, QFN32; MANF: Microchip; MANF_P#: QT60160-ISG; PARAM2: 1.8~5.25V; PARAM: 16-KEY, I2C, QMatrix, -40~85°C; PRICE: 2.2$; VALUE: QT60160
footprint QFN50_32T (QFN, 32, 5X5mm, 0.5mm)
pins: 1 M_SYNC (in), 2 CHANGE (out), 3 VSS (power), 4 VDD (power), 5 VSS (power), 6 VDD (power), 7 X6 (out), 8 X7 (out), 9 LATCH (out), 10 VREF (power), 11 S_SYNC (out), 12 X0 (out), 13 X1 (out), 14 X2 (out), 15 X3 (out), 16 X4 (out), 17 X5 (out), 18 VDD (power), 19 A1 (in), 20 VDD (power), 21 VSS (power), 22 A0 (in), 23 Y0B, 24 Y1B, 25 Y2B, 26 SMP (out), 27 SDA (io), 28 SCL (io), 29 ~{RST} (in), 30 Y0A, 31 Y1A, 32 Y2A, 33 EP (power)

## QT60166_QFP44
designator U?, comment QT60166  (value not drawn)
CapTouchSensor, 16-key, QMatrix, SPI, UART; MANF: Microchip; MANF_P#: QT60166-ASG; PARAM2: 4.75~5.25V; PARAM: 16-key, QMatrix, SPI, UART,  -40~105°C; PRICE: 9$; VALUE: QT60166
footprint QFG80_44 (TQFP44, PQFP44, A44 (Cypress), QFP44/MQFP44N (Dallas), VQ44,VQG44 (Xilinx), MS-026ACB, MS-022AB(JEDEC), 44A, 10.5X10.5, 0.8mm)
pins: 1 MOSI (io), 2 MOSO (out), 3 SCK (io), 4 ~{RST} (in), 5 VDD (power), 6 VSS (power), 7 XT2 (out), 8 XT1 (in), 9 RX (in), 10 TX (out), 11 WS (in), 12 SMP (io), 13 Y3A/NC, 14 Y2A, 15 Y1A, 16 Y0A, 17 VDD (power), 18 VSS (power), 19 X0 (out), 20 X1 (out), 21 X2 (out), 22 X3 (out), 23 X4 (out), 24 X5 (out), 25 X6 (out), 26 X7 (out), 27 VDD (power), 28 VSS (power), 29 VDD (power), 30 Y0B, 31 Y1B, 32 Y2B, 33 Y3B/NC, 34 Y4A/NC, 35 Y4B/NC, 36 Y5A/NC, 37 Y5B/NC, 38 VDD (power), 39 VSS (power), 40 LED (out), 41 DRDY (out), 42 VREF (power), 43 S_SYNC (out), 44 ~{SS} (in)

## QT60168_QFP32
designator U?, comment QT60168  (value not drawn)
CapTouchSensor, 16-KEY, SPI, QMatrix/QProx, QFP32; MANF: Microchip; MANF_P#: QT60168-ASG; PARAM2: 3~5.25V; PARAM: 16-KEY, SPI, QMatrix, -40~85°C; PRICE: 5.7$; VALUE: QT60168
footprint QFG80_32 (TQFP32, A32 (Cypress), GP32 (Zarlink), MS-026ABA(JEDEC), 7X7mm, 0.8mm)
pins: 1 X3 (out), 2 X4 (out), 3 VSS (power), 4 VDD (power), 5 VSS (power), 6 VDD (power), 7 X5 (out), 8 X6 (out), 9 X7 (out), 10 VREF (power), 11 S_SYNC (out), 12 SMP (out), 13 ~{DRDY} (out), 14 ~{SS} (in), 15 MOSI (in), 16 MISO (out), 17 SCK (in), 18 VDD (power), 19 SYNC (in), 20 VDD (power), 21 VSS (power), 22 NC, 23 Y0B, 24 Y1B, 25 Y2B, 26 Y0A, 27 Y1A, 28 Y2A, 29 ~{RST} (in), 30 X0 (out), 31 X1 (out), 32 X2 (out)

## QT60240_QFN32
designator U?, comment QT60240  (value not drawn)
CapTouchSensor, 24-KEY, I2C, QMatrix, QFN32; MANF: Microchip; MANF_P#: QT60240-ISG; PARAM2: 1.8~5.25V; PARAM: 24-KEY, I2C, QMatrix, -40~85°C; PRICE: 2.6$; VALUE: QT60240
footprint QFN50_32T (QFN, 32, 5X5mm, 0.5mm)
pins: 1 M_SYNC (in), 2 CHANGE (out), 3 VSS (power), 4 VDD (power), 5 VSS (power), 6 VDD (power), 7 X6 (out), 8 X7 (out), 9 LATCH (out), 10 VREF (power), 11 S_SYNC (out), 12 X0 (out), 13 X1 (out), 14 X2 (out), 15 X3 (out), 16 X4 (out), 17 X5 (out), 18 VDD (power), 19 A1 (in), 20 VDD (power), 21 VSS (power), 22 A0 (in), 23 Y0B, 24 Y1B, 25 Y2B, 26 SMP (out), 27 SDA (io), 28 SCL (io), 29 ~{RST} (in), 30 Y0A, 31 Y1A, 32 Y2A, 33 EP (power)

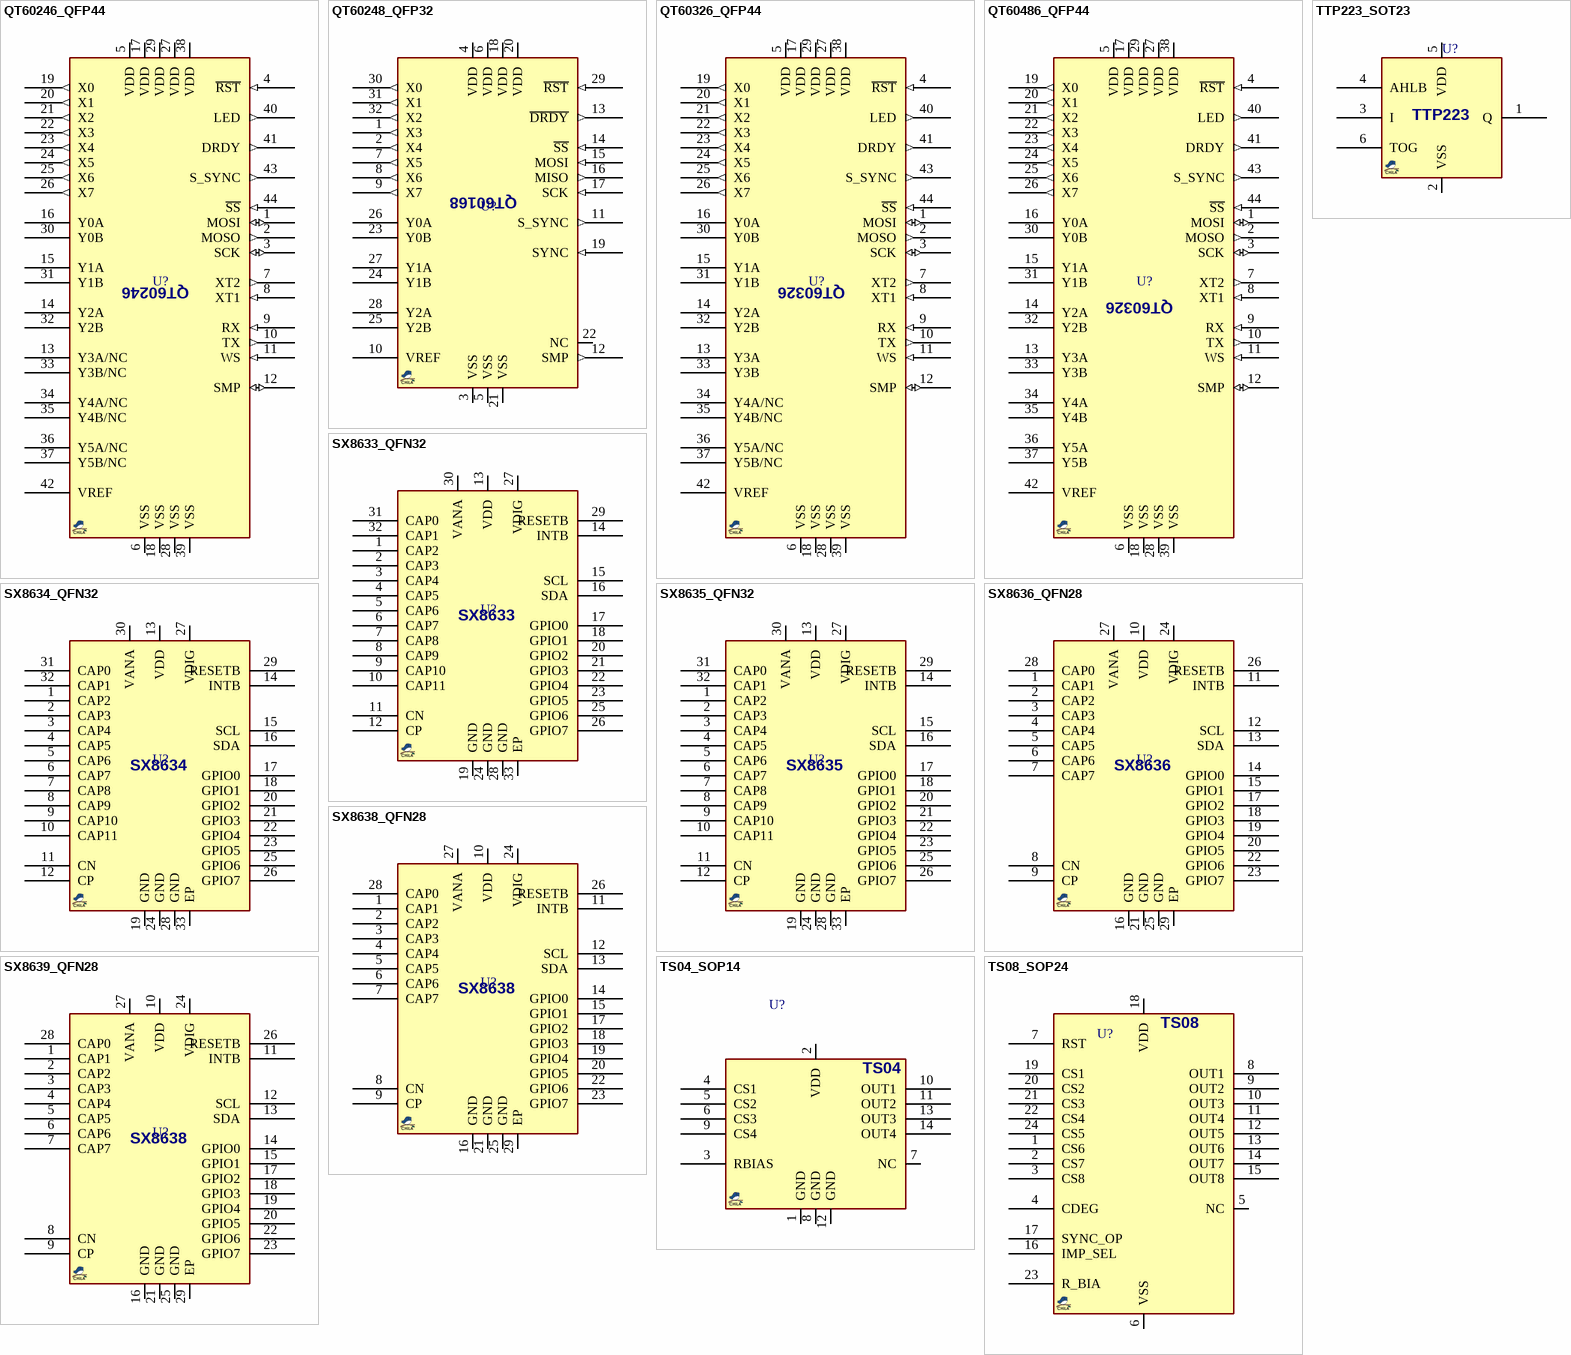
[diagram p3: symbols QT60246_QFP44 to TTP223_SOT23]

## QT60246_QFP44
designator U?, comment QT60246  (value not drawn)
CapTouchSensor, 24-key, QMatrix, SPI, UART; MANF: Microchip; MANF_P#: QT60246-ASG; PARAM2: 4.75~5.25V; PARAM: 24-key, QMatrix, SPI, UART,  -40~105°C; PRICE: 9$; VALUE: QT60246
footprint QFG80_44 (TQFP44, PQFP44, A44 (Cypress), QFP44/MQFP44N (Dallas), VQ44,VQG44 (Xilinx), MS-026ACB, MS-022AB(JEDEC), 44A, 10.5X10.5, 0.8mm)
pins: 1 MOSI (io), 2 MOSO (out), 3 SCK (io), 4 ~{RST} (in), 5 VDD (power), 6 VSS (power), 7 XT2 (out), 8 XT1 (in), 9 RX (in), 10 TX (out), 11 WS (in), 12 SMP (io), 13 Y3A/NC, 14 Y2A, 15 Y1A, 16 Y0A, 17 VDD (power), 18 VSS (power), 19 X0 (out), 20 X1 (out), 21 X2 (out), 22 X3 (out), 23 X4 (out), 24 X5 (out), 25 X6 (out), 26 X7 (out), 27 VDD (power), 28 VSS (power), 29 VDD (power), 30 Y0B, 31 Y1B, 32 Y2B, 33 Y3B/NC, 34 Y4A/NC, 35 Y4B/NC, 36 Y5A/NC, 37 Y5B/NC, 38 VDD (power), 39 VSS (power), 40 LED (out), 41 DRDY (out), 42 VREF (power), 43 S_SYNC (out), 44 ~{SS} (in)

## QT60248_QFP32
designator U?, comment QT60248  (value not drawn)
CapTouchSensor, 16-KEY, SPI, QMatrix/QProx , QFP32; MANF: Microchip; MANF_P#: QT60248-ASG; PARAM2: 3~5.25V; PARAM: 16-KEY, SPI, QMatrix, -40~85°C; PRICE: 5.7$; VALUE: QT60248
footprint QFG80_32 (TQFP32, A32 (Cypress), GP32 (Zarlink), MS-026ABA(JEDEC), 7X7mm, 0.8mm)
pins: 1 X3 (out), 2 X4 (out), 3 VSS (power), 4 VDD (power), 5 VSS (power), 6 VDD (power), 7 X5 (out), 8 X6 (out), 9 X7 (out), 10 VREF (power), 11 S_SYNC (out), 12 SMP (out), 13 ~{DRDY} (out), 14 ~{SS} (in), 15 MOSI (in), 16 MISO (out), 17 SCK (in), 18 VDD (power), 19 SYNC (in), 20 VDD (power), 21 VSS (power), 22 NC, 23 Y0B, 24 Y1B, 25 Y2B, 26 Y0A, 27 Y1A, 28 Y2A, 29 ~{RST} (in), 30 X0 (out), 31 X1 (out), 32 X2 (out)
text: QT60168

## QT60326_QFP44
designator U?, comment QT60326  (value not drawn)
CapTouchSensor, 32-key, QMatrix, SPI, UART; MANF: Microchip; MANF_P#: QT60326-ASG; PARAM2: 4.75~5.25V; PARAM: 32-key, QMatrix, SPI, UART,  -40~105°C; PRICE: 9$; VALUE: QT60326
footprint QFG80_44 (TQFP44, PQFP44, A44 (Cypress), QFP44/MQFP44N (Dallas), VQ44,VQG44 (Xilinx), MS-026ACB, MS-022AB(JEDEC), 44A, 10.5X10.5, 0.8mm)
pins: 1 MOSI (io), 2 MOSO (out), 3 SCK (io), 4 ~{RST} (in), 5 VDD (power), 6 VSS (power), 7 XT2 (out), 8 XT1 (in), 9 RX (in), 10 TX (out), 11 WS (in), 12 SMP (io), 13 Y3A, 14 Y2A, 15 Y1A, 16 Y0A, 17 VDD (power), 18 VSS (power), 19 X0 (out), 20 X1 (out), 21 X2 (out), 22 X3 (out), 23 X4 (out), 24 X5 (out), 25 X6 (out), 26 X7 (out), 27 VDD (power), 28 VSS (power), 29 VDD (power), 30 Y0B, 31 Y1B, 32 Y2B, 33 Y3B, 34 Y4A/NC, 35 Y4B/NC, 36 Y5A/NC, 37 Y5B/NC, 38 VDD (power), 39 VSS (power), 40 LED (out), 41 DRDY (out), 42 VREF (power), 43 S_SYNC (out), 44 ~{SS} (in)

## QT60486_QFP44
designator U?, comment QT60486  (value not drawn)
CapTouchSensor, 48-key, QMatrix, SPI, UART; MANF: Microchip; MANF_P#: QT60486-ASG; PARAM2: 4.75~5.25V; PARAM: 48-key, QMatrix, SPI, UART,  -40~105°C; PRICE: 10$; VALUE: QT60486
footprint QFG80_44 (TQFP44, PQFP44, A44 (Cypress), QFP44/MQFP44N (Dallas), VQ44,VQG44 (Xilinx), MS-026ACB, MS-022AB(JEDEC), 44A, 10.5X10.5, 0.8mm)
pins: 1 MOSI (io), 2 MOSO (out), 3 SCK (io), 4 ~{RST} (in), 5 VDD (power), 6 VSS (power), 7 XT2 (out), 8 XT1 (in), 9 RX (in), 10 TX (out), 11 WS (in), 12 SMP (io), 13 Y3A, 14 Y2A, 15 Y1A, 16 Y0A, 17 VDD (power), 18 VSS (power), 19 X0 (out), 20 X1 (out), 21 X2 (out), 22 X3 (out), 23 X4 (out), 24 X5 (out), 25 X6 (out), 26 X7 (out), 27 VDD (power), 28 VSS (power), 29 VDD (power), 30 Y0B, 31 Y1B, 32 Y2B, 33 Y3B, 34 Y4A, 35 Y4B, 36 Y5A, 37 Y5B, 38 VDD (power), 39 VSS (power), 40 LED (out), 41 DRDY (out), 42 VREF (power), 43 S_SYNC (out), 44 ~{SS} (in)
text: QT60326

## SX8633_QFN32
designator U?, comment SX8633  (value not drawn)
CapTouchSensor, 12-CH, I2C, QFN32; DESC: with LED driver; MANF: Semtech; MANF_P#: SX8633I05AWLTRT; PARAM2: 2.7~3.6V; PARAM: 12-CH, I2C, -40~85°C; PRICE: 3.6$; VALUE: SX8633
footprint QFN50_32T (QFN, 32, 5X5mm, 0.5mm)
pins: 1 CAP2, 2 CAP3, 3 CAP4, 4 CAP5, 5 CAP6, 6 CAP7, 7 CAP8, 8 CAP9, 9 CAP10, 10 CAP11, 11 CN, 12 CP, 13 VDD, 14 INTB, 15 SCL, 16 SDA, 17 GPIO0, 18 GPIO1, 19 GND, 20 GPIO2, 21 GPIO3, 22 GPIO4, 23 GPIO5, 24 GND, 25 GPIO6, 26 GPIO7, 27 VDIG, 28 GND, 29 RESETB, 30 VANA, 31 CAP0, 32 CAP1, 33 EP

## SX8634_QFN32
designator U?, comment SX8634  (value not drawn)
CapTouchSensor, 12-CH, I2C, QFN32; DESC: with LED driver; MANF: Semtech; MANF_P#: SX8634I05AWLTRT; PARAM2: 2.7~3.6V; PARAM: 12-CH, I2C, -40~85°C; PRICE: 3.8$; VALUE: SX8634
footprint QFN50_32T (QFN, 32, 5X5mm, 0.5mm)
pins: 1 CAP2, 2 CAP3, 3 CAP4, 4 CAP5, 5 CAP6, 6 CAP7, 7 CAP8, 8 CAP9, 9 CAP10, 10 CAP11, 11 CN, 12 CP, 13 VDD, 14 INTB, 15 SCL, 16 SDA, 17 GPIO0, 18 GPIO1, 19 GND, 20 GPIO2, 21 GPIO3, 22 GPIO4, 23 GPIO5, 24 GND, 25 GPIO6, 26 GPIO7, 27 VDIG, 28 GND, 29 RESETB, 30 VANA, 31 CAP0, 32 CAP1, 33 EP

## SX8635_QFN32
designator U?, comment SX8635  (value not drawn)
CapTouchSensor, 12-CH, I2C, QFN32; DESC: with LED driver; MANF: Semtech; MANF_P#: SX8635I05AWLTRT; PARAM2: 2.7~3.6V; PARAM: 12-CH, I2C, -40~85°C; PRICE: 3.9$; VALUE: SX8635
footprint QFN50_32T (QFN, 32, 5X5mm, 0.5mm)
pins: 1 CAP2, 2 CAP3, 3 CAP4, 4 CAP5, 5 CAP6, 6 CAP7, 7 CAP8, 8 CAP9, 9 CAP10, 10 CAP11, 11 CN, 12 CP, 13 VDD, 14 INTB, 15 SCL, 16 SDA, 17 GPIO0, 18 GPIO1, 19 GND, 20 GPIO2, 21 GPIO3, 22 GPIO4, 23 GPIO5, 24 GND, 25 GPIO6, 26 GPIO7, 27 VDIG, 28 GND, 29 RESETB, 30 VANA, 31 CAP0, 32 CAP1, 33 EP

## SX8636_QFN28
designator U?, comment SX8636  (value not drawn)
CapTouchSensor, 8-CH, I2C, QFN28; DESC: with LED driver; MANF: Semtech; MANF_P#: SX8636I05AULTRT; PARAM2: 2.7~3.6V; PARAM: 8-CH, I2C, -40~85°C; PRICE: 3.3$; VALUE: SX8636
footprint QFN40_28T (QFN28, 0.4mm pitch, 4x4mm, MLPQ-UT28)
pins: 1 CAP1, 2 CAP2, 3 CAP3, 4 CAP4, 5 CAP5, 6 CAP6, 7 CAP7, 8 CN, 9 CP, 10 VDD, 11 INTB, 12 SCL, 13 SDA, 14 GPIO0, 15 GPIO1, 16 GND, 17 GPIO2, 18 GPIO3, 19 GPIO4, 20 GPIO5, 21 GND, 22 GPIO6, 23 GPIO7, 24 VDIG, 25 GND, 26 RESETB, 27 VANA, 28 CAP0, 29 EP

## SX8638_QFN28
designator U?, comment SX8638  (value not drawn)
CapTouchSensor, 8-CH, I2C, QFN28; DESC: with LED driver; MANF: Semtech; MANF_P#: SX8638I05AULTRT; PARAM2: 2.7~3.6V; PARAM: 8-CH, I2C, -40~85°C; PRICE: 3.6$; VALUE: SX8638
footprint QFN40_28T (QFN28, 0.4mm pitch, 4x4mm, MLPQ-UT28)
pins: 1 CAP1, 2 CAP2, 3 CAP3, 4 CAP4, 5 CAP5, 6 CAP6, 7 CAP7, 8 CN, 9 CP, 10 VDD, 11 INTB, 12 SCL, 13 SDA, 14 GPIO0, 15 GPIO1, 16 GND, 17 GPIO2, 18 GPIO3, 19 GPIO4, 20 GPIO5, 21 GND, 22 GPIO6, 23 GPIO7, 24 VDIG, 25 GND, 26 RESETB, 27 VANA, 28 CAP0, 29 EP

## SX8639_QFN28
designator U?, comment SX8639  (value not drawn)
CapTouchSensor, 8-CH, I2C, QFN28; DESC: with LED driver; MANF: Semtech; MANF_P#: SX8639I05AULTRT; PARAM2: 2.7~3.6V; PARAM: 8-CH, I2C, -40~85°C; PRICE: 3.7$; VALUE: SX8639
footprint QFN40_28T (QFN28, 0.4mm pitch, 4x4mm, MLPQ-UT28)
pins: 1 CAP1, 2 CAP2, 3 CAP3, 4 CAP4, 5 CAP5, 6 CAP6, 7 CAP7, 8 CN, 9 CP, 10 VDD, 11 INTB, 12 SCL, 13 SDA, 14 GPIO0, 15 GPIO1, 16 GND, 17 GPIO2, 18 GPIO3, 19 GPIO4, 20 GPIO5, 21 GND, 22 GPIO6, 23 GPIO7, 24 VDIG, 25 GND, 26 RESETB, 27 VANA, 28 CAP0, 29 EP
text: SX8638

## TS04_SOP14
designator U?, comment TS04  (value not drawn)
CapTouchSensor, 4-Ch, Self Calibration; MANF: touchSEMI; MANF_P#: TS04N-14SOP; PARAM2: 2.5~5VCC; PARAM: 4-Ch, OpenDrarin Active Low, -20~75oC; PRICE: 2200toman@M; VALUE: TS04
footprint SO_14 (SOP, SOIC, 3.9mm width, 1.27mm pitch,)
pins: 1 GND, 2 VDD, 3 RBIAS, 4 CS1, 5 CS2, 6 CS3, 7 NC, 8 GND, 9 CS4, 10 OUT1, 11 OUT2, 12 GND, 13 OUT3, 14 OUT4

## TS08_SOP24
designator U?, comment TS08  (value not drawn)
CapTouchSensor, 8-Ch, Self Calibration; MANF: touchSEMI; MANF_P#: TS08N-24SOP; PARAM2: 2.5~5VCC; PARAM: 8-Ch, OpenDrarin Active Low, -20~75oC; PRICE: 5000toman@Paya; VALUE: TS08
footprint SO_24_W (SOP, SOIC, 7.5mm width, 1.27mm pitch,)
pins: 1 CS6, 2 CS7, 3 CS8, 4 CDEG, 5 NC, 6 VSS, 7 RST, 8 OUT1, 9 OUT2, 10 OUT3, 11 OUT4, 12 OUT5, 13 OUT6, 14 OUT7, 15 OUT8, 16 IMP_SEL, 17 SYNC_OP, 18 VDD, 19 CS1, 20 CS2, 21 CS3, 22 CS4, 23 R_BIA, 24 CS5

## TTP223_SOT23
designator U?  (value not drawn)
CapTouchSensor, 1-Ch; MANF: TT; MANF_P#: TTP223-BA6; PARAM2: 2~5.5V; VALUE: TTP223
footprint SOT23_6 (SOT-23-6, MICRO6, SOT-26, SOT457, SuperSOT6, TSOP-6, HMC313, MO-178AB, MO-193AA, TSOT)
pins: 1 Q, 2 VSS, 3 I, 4 AHLB, 5 VDD, 6 TOG

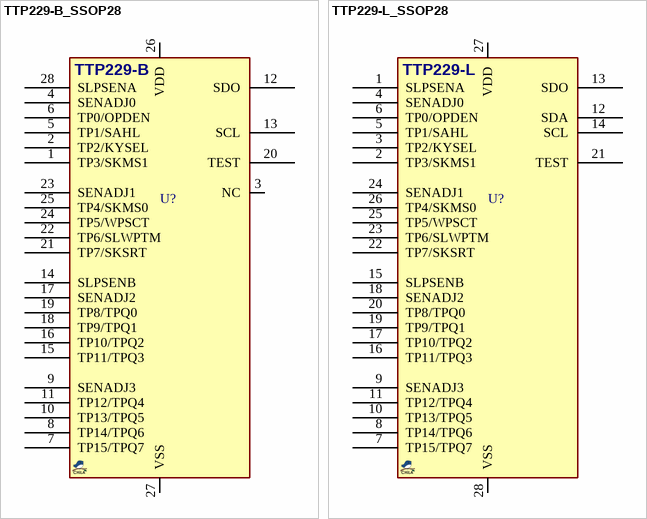
[diagram p4: symbols TTP229-B_SSOP28 to TTP229-L_SSOP28]

## TTP229-B_SSOP28
designator U?, comment TTP229-B  (value not drawn)
CapTouchSensor, 16-Ch; MANF: TT; MANF_P#: TTP229-BSF; PARAM2: 2~5.5V; VALUE: TTP229-B
footprint SOG63_28 (SSOP, 28-Leads, 9.9x3.9mm, Pitch 0.635mm)
pins: 1 TP3/SKMS1, 2 TP2/KYSEL, 3 NC, 4 SENADJ0, 5 TP1/SAHL, 6 TP0/OPDEN, 7 TP15/TPQ7, 8 TP14/TPQ6, 9 SENADJ3, 10 TP13/TPQ5, 11 TP12/TPQ4, 12 SDO, 13 SCL, 14 SLPSENB, 15 TP11/TPQ3, 16 TP10/TPQ2, 17 SENADJ2, 18 TP9/TPQ1, 19 TP8/TPQ0, 20 TEST, 21 TP7/SKSRT, 22 TP6/SLWPTM, 23 SENADJ1, 24 TP5/WPSCT, 25 TP4/SKMS0, 26 VDD, 27 VSS, 28 SLPSENA

## TTP229-L_SSOP28
designator U?, comment TTP229  (value not drawn)
CapTouchSensor, 16-Ch; MANF: TT; MANF_P#: TTP229-LSF; PARAM2: 2~5.5V; VALUE: TTP229
footprint SOG63_28 (SSOP, 28-Leads, 9.9x3.9mm, Pitch 0.635mm)
pins: 1 SLPSENA, 2 TP3/SKMS1, 3 TP2/KYSEL, 4 SENADJ0, 5 TP1/SAHL, 6 TP0/OPDEN, 7 TP15/TPQ7, 8 TP14/TPQ6, 9 SENADJ3, 10 TP13/TPQ5, 11 TP12/TPQ4, 12 SDA, 13 SDO, 14 SCL, 15 SLPSENB, 16 TP11/TPQ3, 17 TP10/TPQ2, 18 SENADJ2, 19 TP9/TPQ1, 20 TP8/TPQ0, 21 TEST, 22 TP7/SKSRT, 23 TP6/SLWPTM, 24 SENADJ1, 25 TP5/WPSCT, 26 TP4/SKMS0, 27 VDD, 28 VSS
text: TTP229-L